# Altium footprint library SMD2920.PcbLib: 1 footprints
Each footprint in its own frame and in the unit in brackets; x right, y up, seen from the top. Pads: shape width x height; smd on the part's side, far side on the other; paste and mask are expansions set on the pad; w line width, h text height; cw(c..) or ccw(c..) is an arc to the next point about the centre after c.
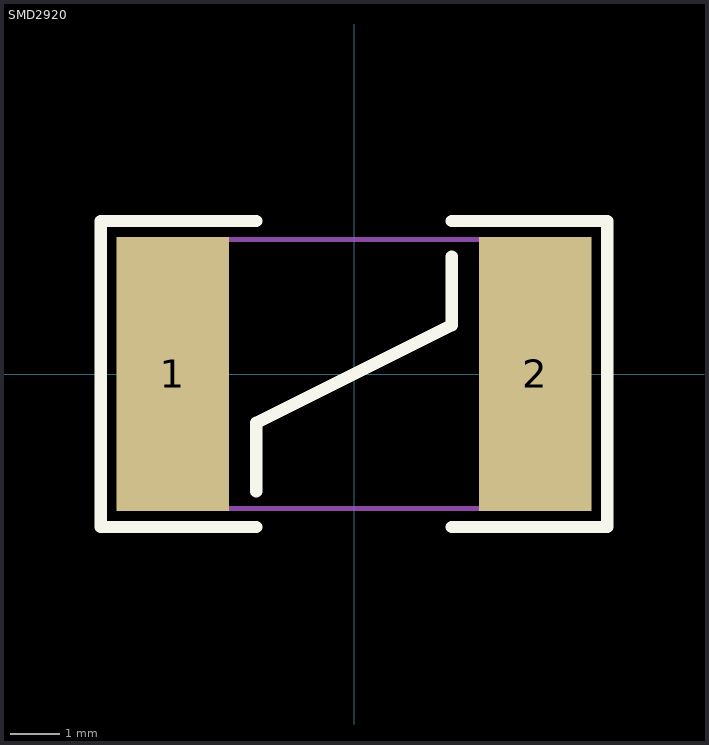
[diagram p0: the footprint, top view; thin cyan lines are the x and y axes]

## SMD2920 [mm]
pads (2):
  rect 2.3x5.6 smd: 1(-3.7,0) 2(3.7,0)
Top Overlay:
  lines w0.254: -2,-3.125 -5.175,-3.125 -5.175,3.125 -2,3.125 ; -2,-2.4 -2,-1 2,1 2,2.4 ; 2,-3.125 5.175,-3.125 5.175,3.125 2,3.125
Mechanical 13:
  lines w0.1: -4,-2.75 -4,2.75 4,2.75 4,-2.75 -4,-2.75